# Altium schematic symbol library SnapEDAsch.SchLib: 1 symbol
Pins are listed as number, name and electrical type; pins without a type are passive.

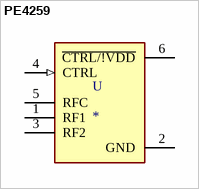
[diagram p0: symbol PE4259]

## PE4259
designator U
UltraCMOSÂ® Switch, SPDT For Use With PE4259; MF: pSemi; Package: SOT-363 Peregrine Semiconductor; MP: PE4259; Value: *; Availability: Unavailable; SnapEDA_Link: https://www.snapeda.com/parts/PE4259/pSemi/view-part/377998/?ref=snap; Price: None
footprint SOT65P215X110-6N
pins: 1 RF1, 2 GND (power), 3 RF2, 4 CTRL (in), 5 RFC, 6 ~{CTRL/!VDD} (power)